# EAGLE library part FX6-20S-08SV71 (library con-hirose-bm10)
CONN RECEPT 20POS .8MM W/BOSS
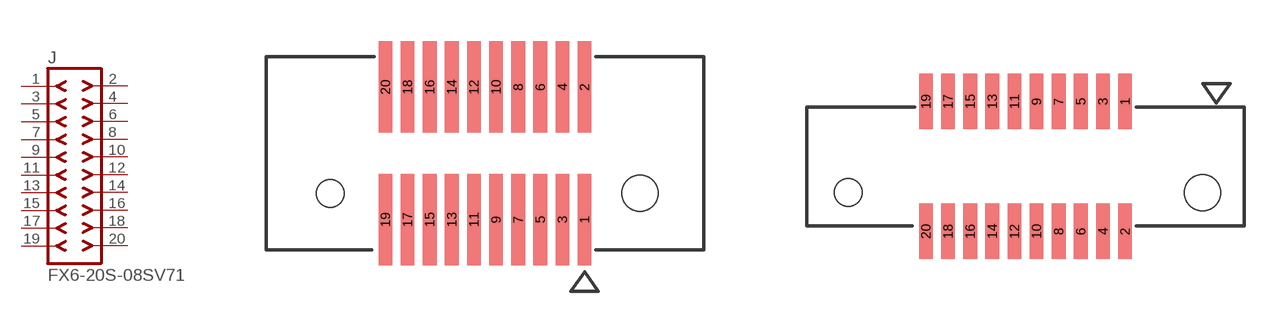
[diagram p5: symbol with the pads of FX6-20S-0.8SV; footprints FX6-20S-0.8SV, FX6-20P-0.8SV(71)]

Designator prefix J

## FX6-20S-08SV71 (DIGIKEY: H10803-ND)  [FX6-20S-0.8SV]
1  1  pas
2  2  pas
3  3  pas
4  4  pas
5  5  pas
6  6  pas
7  7  pas
8  8  pas
9  9  pas
10  10  pas
11  11  pas
12  12  pas
13  13  pas
14  14  pas
15  15  pas
16  16  pas
17  17  pas
18  18  pas
19  19  pas
20  20  pas

## FX6-20S-08SV71M (DIGIKEY: H10784-ND)  [FX6-20P-0.8SV(71)]
Pads as for FX6-20S-0.8SV

## Footprint FX6-20S-0.8SV (pad centres in mm)
smd 0.5 x 3.3: 1 3.6,-2.4; 2 3.6,2.4; 3 2.8,-2.4; 4 2.8,2.4; 5 2,-2.4; 6 2,2.4; 7 1.2,-2.4; 8 1.2,2.4; 9 0.4,-2.4; 10 0.4,2.4; 11 -0.4,-2.4; 12 -0.4,2.4; 13 -1.2,-2.4; 14 -1.2,2.4; 15 -2,-2.4; 16 -2,2.4; 17 -2.8,-2.4; 18 -2.8,2.4; 19 -3.6,-2.4; 20 -3.6,2.4
hole 1.3 at 5.6,-1.45
hole 1 at -5.6,-1.45

## Footprint FX6-20P-0.8SV(71) (pad centres in mm)
smd 0.5 x 2: 1 3.6,2.35; 2 3.6,-2.35; 3 2.8,2.35; 4 2.8,-2.35; 5 2,2.35; 6 2,-2.35; 7 1.2,2.35; 8 1.2,-2.35; 9 0.4,2.35; 10 0.4,-2.35; 11 -0.4,2.35; 12 -0.4,-2.35; 13 -1.2,2.35; 14 -1.2,-2.35; 15 -2,2.35; 16 -2,-2.35; 17 -2.8,2.35; 18 -2.8,-2.35; 19 -3.6,2.35; 20 -3.6,-2.35
hole 1.3 at 6.4,-0.95
hole 1 at -6.4,-0.95